# Altium footprint library Encoder.PcbLib: 1 footprints
Each footprint in its own frame and in the unit in brackets; x right, y up, seen from the top. Pads: shape width x height; smd on the part's side, far side on the other; paste and mask are expansions set on the pad; w line width, h text height; cw(c..) or ccw(c..) is an arc to the next point about the centre after c.
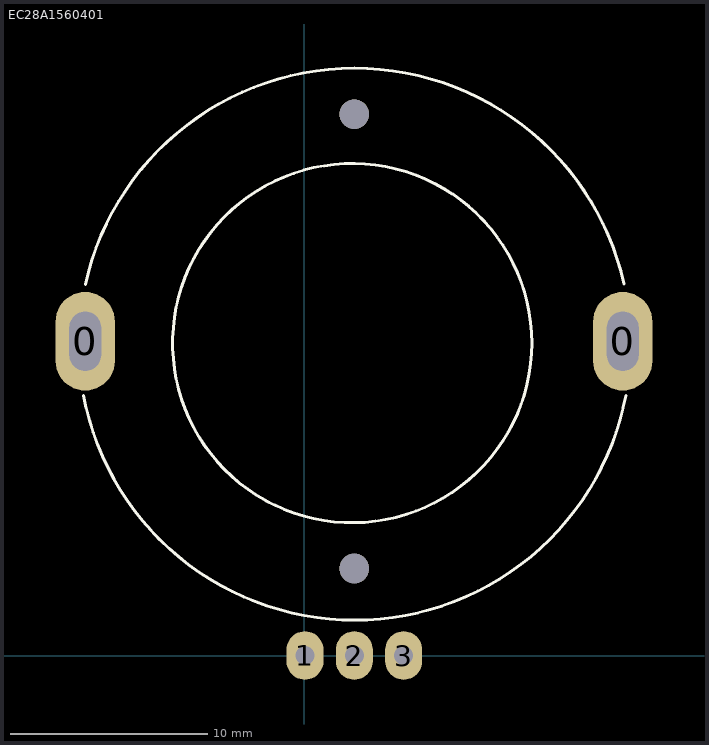
[diagram p0: the footprint, top view; thin cyan lines are the x and y axes]

## EC28A1560401 [mm] "28mm Size Ring Type EC28A/EC28C Series"
pads (7):
  oval 3x5 hole 1.6 slot 3 at 90 deg: 0(-11.102,15.907) 0(16.114,15.907)
  oval 1.873x2.457 hole 0.965: 1(0.022,0) 2(2.522,0) 3(5.022,0)
  round 1.5 hole 1.5 unplated: ""(2.522,4.407)
  round 1.5 hole 1.5: ""(2.522,27.407)
Top Overlay:
  circle w0.152: c2.416,15.814 r9.093
  lines w0.152: -11.185,13.158 ccw(c2.541,15.761) 16.269,13.174 ; -11.098,18.788 cw(c2.541,15.761) 16.172,18.817
3D body "EC28A1560401.STEP": height 15, standoff -3.5, extent -12.233,-0.305 17.263,29.895